# Altium footprint library SCREEN.PcbLib: 1 footprints
Each footprint in its own frame and in the unit in brackets; x right, y up, seen from the top. Pads: shape width x height; smd on the part's side, far side on the other; paste and mask are expansions set on the pad; w line width, h text height; cw(c..) or ccw(c..) is an arc to the next point about the centre after c.
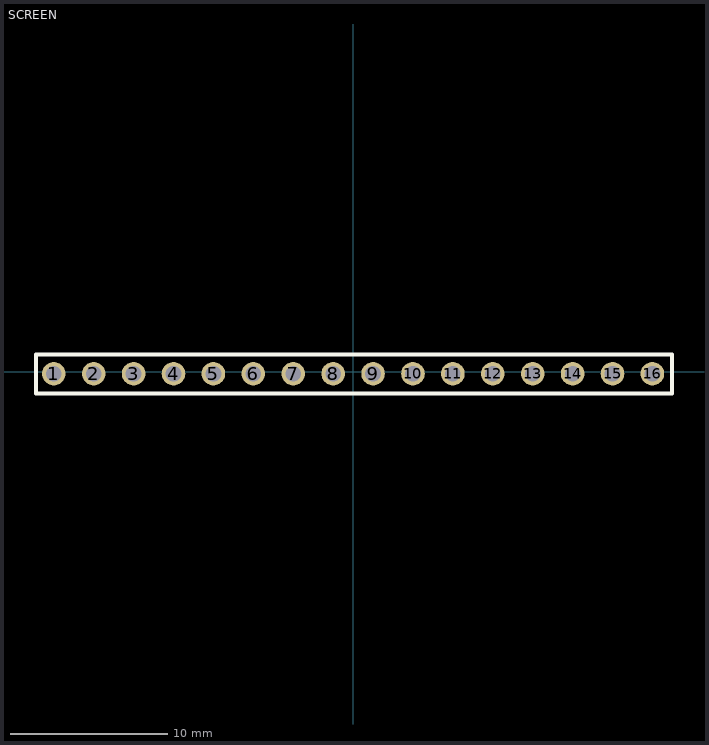
[diagram p0: the footprint, top view; thin cyan lines are the x and y axes]

## SCREEN [mm]
pads (16):
  round 1.5 hole 1 paste-2539.97: 1(-19.05,-0.127) 2(-16.51,-0.127) 3(-13.97,-0.127) 4(-11.43,-0.127) 5(-8.89,-0.127) 6(-6.35,-0.127) 7(-3.81,-0.127) 8(-1.27,-0.127) 9(1.27,-0.127) 10(3.81,-0.127) 11(6.35,-0.127) 12(8.89,-0.127) 13(11.43,-0.127) 14(13.97,-0.127) 15(16.51,-0.127) 16(19.05,-0.127)
Top Overlay:
  lines w0.254: -20.193,-1.397 -20.193,1.103 20.307,1.103 20.307,-1.397 -20.193,-1.397